# Altium schematic symbol library Lite-On.SchLib: 2 symbols
Pins are listed as number, name and electrical type; pins without a type are passive.

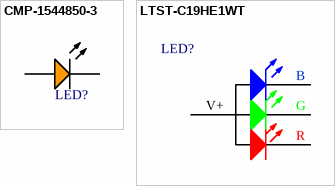
[diagram p0: symbols CMP-1544850-3 to LTST-C19HE1WT]

## CMP-1544850-3
designator LED?, comment LTST-C190KFKT  (value not drawn)
LED Uni-Color Orange, 75 mW, 30 mA; Forward Voltage: 2.00 V; Luminous Intensity: 60.0 mcd; Lens Type: Non-Diffused; Wavelength: 611 nm; Viewing Angle: 130 °; Lead-Free Status: Lead Free; Case/Package (SI): 1608; Size-Width: 800 µm; PackageReference: C190KFKT; Size-Height: 800 µm; Color: Orange; Packaging: Cut Tape (CT), Tape & Reel (TR); RoHS: Compliant; Seller Landing  Url: https://octopart-clicks.com/click/track?country=US&ak=8157f166&sig=0e2a9b5&sid=459&ppid=549896&vpid=1324662&ct=offers; Octopart Url: http://octopart.com/ltst-c190kfkt-lite-on-549896; Mounting Style: Surface Mount, Vertical; OctopartID: 99ca50c8d8a4460d; DatasheetVersion: Rev. I, 09/2011; Manufacturer Part Number: LTST-C190KFKT; Case/Package: 0603; Size-Length: 1.60 mm; PackageDescription: 2-Pin Surface Mount Device, Body 1.6 x 0.8 mm
footprint LED_0603
pins: 1 A, 2 K

## LTST-C19HE1WT
designator LED?  (value not drawn)
RGB LED 0606 (1616 metric); Lead-Free Status: Lead Free; Wavelength - Dominant: 624nm Red, 525nm Green, 470nm Blue; package metric: 1616; Configuration: Common Anode; Octopart URL: http://octopart.com/ltst-c19he1wt-lite-on-13128904; OctopartID: 1946d08468e8c681; RoHS: Compliant; Manufacturer Part Number: LTST-C19HE1WT; package: 0606; supplier 1: Digikey; Supplier Part Number: 160-2162-1-ND; Height (Max): 0.45mm; Mounting Type: SMT
footprint LED_0606_160X160X35
pins: 1 R, 2 G, 3 B, 4 A
text: V+